# Altium footprint library web.skorpioTemp.PcbLib: 1 footprints
Each footprint in its own frame and in the unit in brackets; x right, y up, seen from the top. Pads: shape width x height; smd on the part's side, far side on the other; paste and mask are expansions set on the pad; w line width, h text height; cw(c..) or ccw(c..) is an arc to the next point about the centre after c.
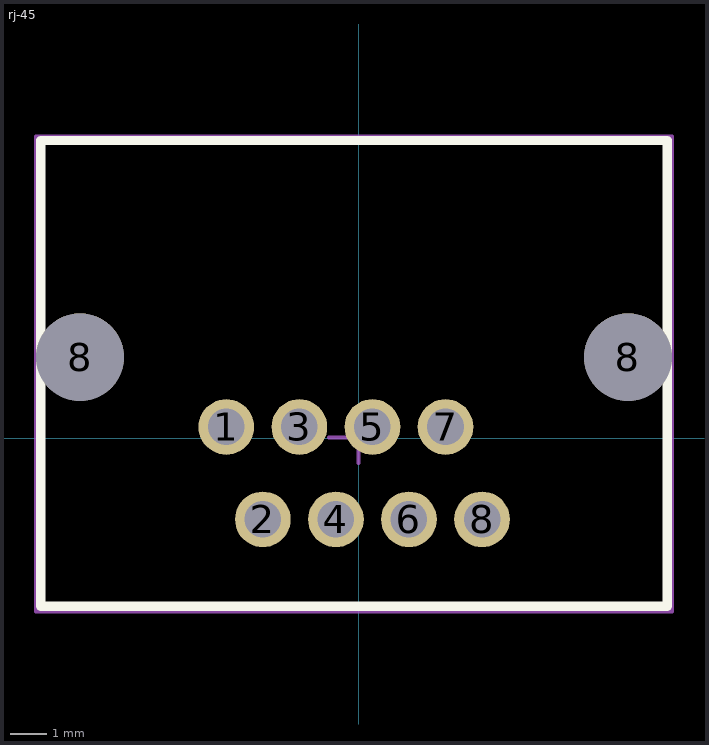
[diagram p0: the footprint, top view; thin cyan lines are the x and y axes]

## rj-45 [mm] "Magjack"
height 13.5
pads (10):
  round 1.524 hole 1: 1(-3.62,0.31) 2(-2.62,-2.22) 3(-1.62,0.31) 4(-0.62,-2.22) 5(0.38,0.31) 6(1.38,-2.22) 7(2.38,0.31) 8(3.38,-2.22)
  round 2.4 hole 2.4: 8(-7.625,2.22) 8(7.375,2.22)
Top Overlay:
  lines w0.254: -8.7,-4.595 -8.7,5.18 -8.7,8.155 8.45,8.155 8.45,2.08 8.45,-4.595 -8.7,-4.595
Mechanical 15:
  lines w0.1: -0.82,0.02 0.8,0.02 ; 0,-0.68 0,0.72 ; -8.836,-4.74 -8.836,8.26 8.586,8.26 8.586,-4.74 -8.836,-4.74
3D body "rj45_socket_asm.stp": height 14.5, standoff -4.07, extent -8.836,-4.74 8.586,8.26